# EAGLE library part 74AHCT245BQ (library FarnellThings)
Octal bus transceiver 3-state,QFN-20
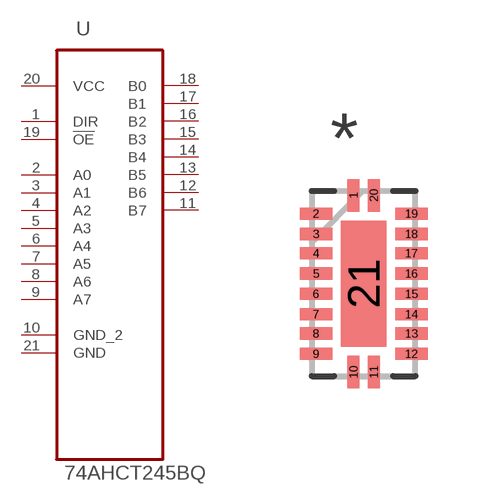
[diagram p16: symbol with the pads of QFN50P250X450X100-21N; footprint QFN50P250X450X100-21N]

Designator prefix U

## 74AHCT245BQ (MPN: 74AHCT245BQ; OC_FARNELL: 2164648; OC_NEWARK: 55W4589; PACKAGE: QFN-20; SUPPLIER: NXP)  [QFN50P250X450X100-21N]
1  DIR  in
2  A0
3  A1
4  A2
5  A3
6  A4
7  A5
8  A6
9  A7
10  GND_2  pas
11  B7
12  B6
13  B5
14  B4
15  B3
16  B2
17  B1
18  B0
19  !OE  in
20  VCC  pwr
21  GND  pas

## Footprint QFN50P250X450X100-21N (pad centres in mm)
smd 0.305 x 0.813: 1 -0.254,2.21; 10 -0.254,-2.21; 11 0.254,-2.21; 20 0.254,2.21
smd 0.813 x 0.305: 2 -1.194,1.753; 3 -1.194,1.245; 4 -1.194,0.762; 5 -1.194,0.254; 6 -1.194,-0.254; 7 -1.194,-0.762; 8 -1.194,-1.245; 9 -1.194,-1.753; 12 1.194,-1.753; 13 1.194,-1.245; 14 1.194,-0.762; 15 1.194,-0.254; 16 1.194,0.254; 17 1.194,0.762; 18 1.194,1.245; 19 1.194,1.753
smd 1.143 x 3.15: 21 0,0